# Altium footprint library Resistor.PcbLib: 56 footprints (part 3 of 4)
Each footprint in its own frame and in the unit in brackets; x right, y up, seen from the top. Pads: shape width x height; smd on the part's side, far side on the other; paste and mask are expansions set on the pad; w line width, h text height; cw(c..) or ccw(c..) is an arc to the next point about the centre after c.
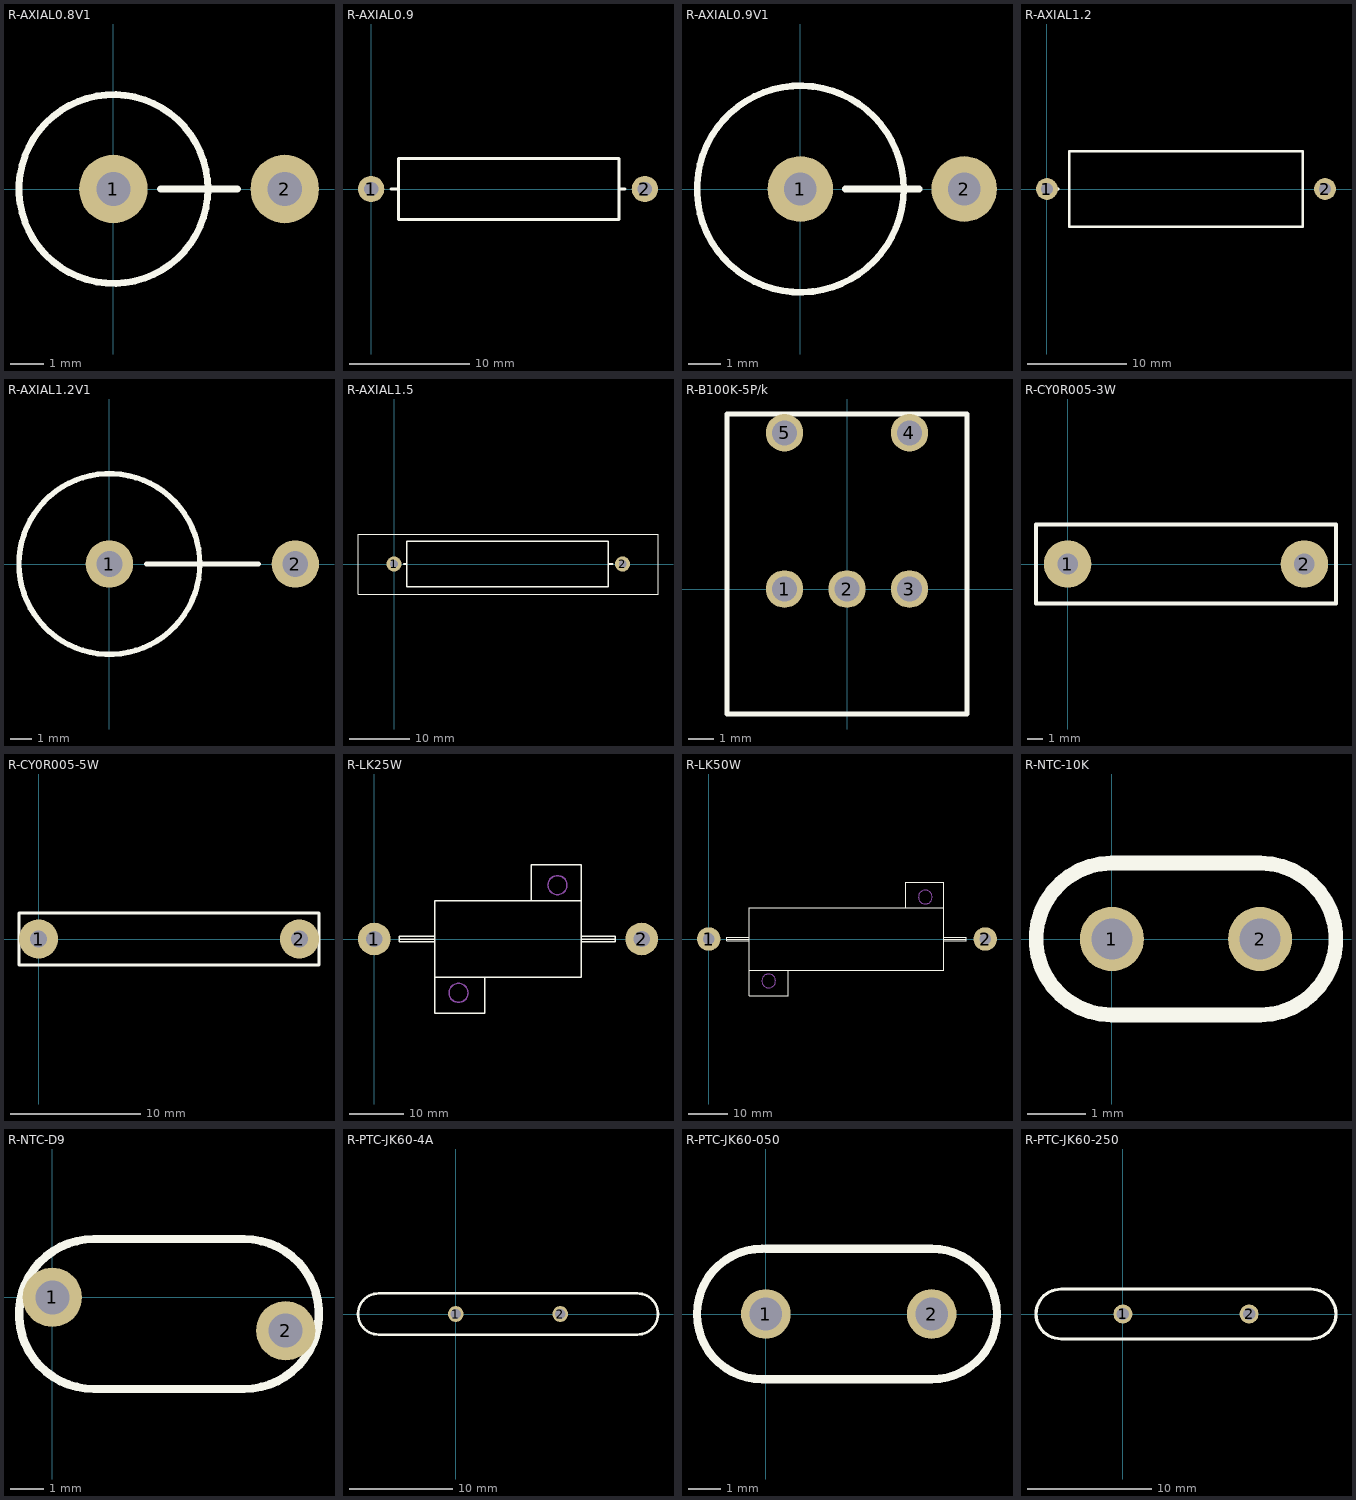
[diagram p2: the footprints below, top view; thin cyan lines are the x and y axes]

## R-AXIAL0.8V1 [mil]
pads (2):
  round 80 hole 40: 1(0,0) 2(200,0)
Top Overlay:
  circle w8: c0,0 r110.24
  lines w8: 55,0 145,0
3D body: height 712.47, standoff 681.1, extent -15.96,-16.43 214.75,15
3D body: height 696.85, standoff 0, extent 183.63,-16.72 215,14.72
3D body: height 696.85, standoff 590.55, extent -16.37,-16.72 15,14.72
3D body: height 590.55, standoff 0, extent -98.07,-99.23 98,97.23

## R-AXIAL0.9 [mm]
pads (2):
  round 2.2 hole 1.2: 1(0,0) 2(22.86,0)
Top Overlay:
  lines w0.254: 1.651,0 2.159,0 ; 20.701,0 21.209,0 ; 2.286,-2.54 2.286,2.54 20.701,2.54 20.701,-2.54 2.286,-2.54
3D body: height 3.98, standoff 0, extent 3.606,-1.986 19.406,2.007
3D body: height 2.5, standoff 1.5, extent -0.501,-0.49 3.599,0.508
3D body: height 2.5, standoff 1.5, extent 19.412,-0.49 23.362,0.508
3D body: height 2, standoff 0, extent -0.501,-0.49 0.495,0.508
3D body: height 2, standoff 0, extent 22.366,-0.49 23.362,0.508

## R-AXIAL0.9V1 [mil]
pads (2):
  round 80 hole 40: 1(0,0) 2(200,0)
Top Overlay:
  circle w8: c0,0 r125.98
  lines w8: 55,0 145,0
3D body: height 669.29, standoff 0, extent -117.29,-118.88 118,116.88
3D body: height 775.59, standoff 669.29, extent -15.37,-15.72 16,15.72
3D body: height 775.59, standoff 0, extent 184.63,-15.72 216,15.72
3D body: height 791.21, standoff 759.84, extent -14.96,-15.43 215.75,16

## R-AXIAL1.2 [mm]
pads (2):
  round 2.2 hole 1.2: 1(0,0) 2(28,0)
Top Overlay:
  lines w0.254: 0.651,0 1.159,0 ; 27.067,0 27.829,0 ; 2.25,-3.81 25.75,-3.81 25.75,3.81 2.25,3.81 2.25,-3.81
3D body: height 2.5, standoff 1.5, extent 23.2,-0.499 28,0.499
3D body: height 2, standoff 0, extent 27.5,-0.499 28.496,0.499
3D body: height 2, standoff 0, extent -0.5,-0.499 0.496,0.499
3D body: height 2.5, standoff 1.5, extent 0,-0.5 4.52,0.498
3D body: height 4.98, standoff -1, extent 3.035,-2.994 25.035,2.994

## R-AXIAL1.2V1 [mm]
pads (2):
  round 2.2 hole 1.2: 1(0,0) 2(8.636,0)
Top Overlay:
  circle w0.254: c0,0 r4.2
  lines w0.254: 1.73,0 6.909,0
3D body: height 24, standoff 0, extent -3.981,-3.992 3.988,3.992
3D body: height 26.7, standoff 24, extent -0.39,-0.399 0.406,0.399
3D body: height 26.7, standoff 0, extent 8.238,-0.399 9.034,0.399
3D body: height 27.1, standoff 26.3, extent -0.392,-0.406 9.028,0.392

## R-AXIAL1.5 [mil]
pads (2):
  round 100 hole 50: 1(0,0) 2(1500,0)
Top Overlay:
  lines w8: -236.22,-196.85 -236.22,196.85 1732.28,196.85 1732.28,-196.85 -236.22,-196.85
  lines w10: 65,0 85,0 ; 1405,0 1435,0 ; 85,-150 1405,-150 1405,150 85,150 85,-150
3D body: height 393.7, standoff 0, extent -40.75,-175 1554.25,175
3D body: height 98.27, standoff 59.06, extent 1326,-19.65 1514.98,19.65
3D body: height 78.74, standoff 0, extent 1475.76,-19.65 1514.98,19.65
3D body: height 78.74, standoff 0, extent -15.22,-19.64 24,19.64
3D body: height 98.27, standoff 59.06, extent -15.09,-19.65 162.86,19.65
3D body: height 195.92, standoff -39.37, extent 163.29,-115.75 1324.71,120

## R-B100K-5P/k [mm]
pads (5):
  round 1.5 hole 1: 1(-2.5,0) 2(0,0) 3(2.5,0) 4(2.5,6.25) 5(-2.5,6.25)
Top Overlay:
  lines w0.2: -4.8,-5 4.8,-5 4.8,4.8 4.8,7 -4.8,7 -4.8,-5

## R-CY0R005-3W [mm]
pads (2):
  round 3 hole 1.3: 1(0,0) 2(15,0)
Top Overlay:
  lines w0.254: -2,-2.5 -2,2.5 17,2.5 17,-2.5 -2,-2.5
3D body: height 3, standoff 0, extent 14.447,-0.499 15.443,0.499
3D body: height 3, standoff 0, extent -0.447,-0.508 0.549,0.49
3D body: height 16.5, standoff 15, extent -0.66,-1.651 15.646,1.651
3D body: height 15, standoff 3, extent -0.66,-1.651 0.762,1.651
3D body: height 15, standoff 3, extent 14.224,-1.651 15.646,1.651

## R-CY0R005-5W [mm]
pads (2):
  round 3 hole 1.3: 1(0,0) 2(20,0)
Top Overlay:
  lines w0.254: -1.5,-2 -1.5,2 21.5,2 21.5,-2 -1.5,-2
3D body: height 3, standoff 0, extent 19.441,-0.474 20.437,0.524
3D body: height 3, standoff 0, extent -0.463,-0.474 0.533,0.524
3D body: height 21.5, standoff 20, extent -0.66,-1.651 20.65,1.651
3D body: height 20, standoff 3, extent -0.66,-1.651 0.762,1.651
3D body: height 20, standoff 3, extent 19.228,-1.651 20.65,1.651

## R-LK25W [mm]
pads (2):
  round 6 hole 3: 1(0,0) 2(49.2,0)
Top Overlay:
  lines w0.254: 11.1,-0.508 4.572,-0.508 4.572,0 ; 11.1,0 4.572,0 ; 11.1,0.508 4.572,0.508 4.572,0 ; 20.3,-7 20.3,-13.7 11.1,-13.7 11.1,-7 ; 28.9,7 28.9,13.7 38.1,13.7 38.1,7 ; 38.1,-0.508 44.328,-0.508 44.328,0 ; 38.1,0 44.328,0 ; 38.1,0.508 44.328,0.508 44.328,0 ; 11.1,-7 38.1,-7 38.1,7 ; 11.1,-7 11.1,7 38.1,7
Mechanical 1:
  circle w0.254: c15.5,-9.9 r1.75
  circle w0.254: c33.7,9.9 r1.75
3D body: height 8, standoff 0, extent 48.327,-1.005 50.319,0.991
3D body: height 9.49, standoff 7.5, extent 37.819,-1.005 50.319,0.991
3D body: height 16, standoff 0, extent 11.328,-13.487 37.897,13.513
3D body: height 9.49, standoff 7.5, extent -1.119,-1.005 11.381,0.991
3D body: height 8, standoff 0, extent -1.119,-1.005 0.873,0.991

## R-LK50W [mm]
pads (2):
  round 6 hole 3: 1(0,0) 2(70.6,0)
Top Overlay:
  lines w0.254: 10.3,-0.508 4.572,-0.508 4.572,0 ; 10.3,0 4.572,0 ; 10.3,0.508 4.572,0.508 4.572,0 ; 20.3,-8 20.3,-14.5 10.3,-14.5 10.3,-8 ; 50.3,8 50.3,14.5 60,14.5 60,8 ; 60,-0.508 65.728,-0.508 65.728,0 ; 60,0 65.728,0 ; 60,0.508 65.728,0.508 65.728,0 ; 10.3,-8 10.3,8 60,8 ; 10.3,-8 60,-8 60,8
Mechanical 1:
  circle w0.254: c15.3,-10.7 r1.75
  circle w0.254: c55.3,10.7 r1.75
3D body: height 8, standoff 0, extent 69.716,-0.991 71.708,1.005
3D body: height 9.49, standoff 7.5, extent 59.808,-0.991 71.708,1.005
3D body: height 8, standoff 0, extent -1.129,-0.998 0.864,0.998
3D body: height 17, standoff 0, extent 10.465,-14.351 59.817,14.326

## R-NTC-10K [mm]
pads (2):
  round 1.1 hole 0.7: 1(0,0) 2(2.54,0)
Top Overlay:
  lines w0.254: 0,-1.3 cw(c0,0) 0,1.3 2.54,1.3 cw(c2.54,0) 2.54,-1.3 0,-1.3
3D body: height 3.89, standoff 0.7, extent -0.327,-0.763 2.867,0.737
3D body: height 2.5, standoff 0, extent 2.235,-0.299 2.833,0.299
3D body: height 2.5, standoff 0, extent -0.293,-0.299 0.305,0.299

## R-NTC-D9 [mil]
pads (2):
  round 70 hole 40: 1(0,0) 2(275.59,-39.37)
Top Overlay:
  lines w10: 49.21,-108.27 cw(c49.21,-19.68) 49.21,68.9 226.38,68.9 cw(c226.38,-19.68) 226.38,-108.27 49.21,-108.27
3D body: height 590.55, standoff 0, extent 255.98,-58.98 295.2,-19.68
3D body: height 590.55, standoff 0, extent -19.61,-19.68 19.61,19.61
3D body: height 687.58, standoff 334.65, extent -39.37,-108.27 314.26,68.9

## R-PTC-JK60-4A [mil]
pads (2):
  round 60 hole 39.37: 1(0,0) 2(400,0)
Top Overlay:
  lines w10: -295.28,-78.74 cw(c-295.28,0) -295.28,78.74 695.28,78.74 cw(c695.28,0) 695.28,-78.74 -295.28,-78.74
3D body: height 1263.49, standoff 196.85, extent -328.75,-60 740,62.05
3D body: height 314.96, standoff 0, extent -20.21,-19.65 19,19.65
3D body: height 0, standoff 0, extent -34,-34 434,34
3D body: height 314.96, standoff 0, extent 379.79,-19.65 419,19.65
3D body: height 0, standoff 0, extent -379.02,-83.74 779.02,83.74
3D body: height 0, standoff 0, extent -374,-78.72 774,78.72
3D body: height 0, standoff 0, extent -379.02,-83.74 779.02,83.74

## R-PTC-JK60-050 [mil]
pads (2):
  round 60 hole 39.37: 1(0,0) 2(200,0)
Top Overlay:
  lines w10: -4.21,78.74 ccw(c-4.21,0) -4.21,-78.74 199,-78.74 ; 0,78.74 199,78.74 ; 200,-78.74 ccw(c200,0) 200,78.74
3D body: height 314.96, standoff 0, extent -19.21,-19.65 20,19.65
3D body: height 455.51, standoff 157.48, extent -49.31,-61.05 249.31,61
3D body: height 314.96, standoff 0, extent 174.79,-19.65 214,19.65

## R-PTC-JK60-250 [mil]
pads (2):
  round 60 hole 39.37: 1(0,0) 2(400,0)
Top Overlay:
  lines w10: -196.85,-78.74 cw(c-196.85,0) -196.85,78.74 596.85,78.74 cw(c596.85,0) 596.85,-78.74 -196.85,-78.74
3D body: height 314.96, standoff 0, extent -19.61,-19.29 19.61,20
3D body: height 1012.52, standoff 196.85, extent -213.64,-61.05 603.64,61
3D body: height 314.96, standoff 0, extent 379.79,-19.65 419,19.65